# Altium footprint library Crystal.PcbLib: 185 footprints (part 11 of 12)
Each footprint in its own frame and in the unit in brackets; x right, y up, seen from the top. Pads: shape width x height; smd on the part's side, far side on the other; paste and mask are expansions set on the pad; w line width, h text height; cw(c..) or ccw(c..) is an arc to the next point about the centre after c.
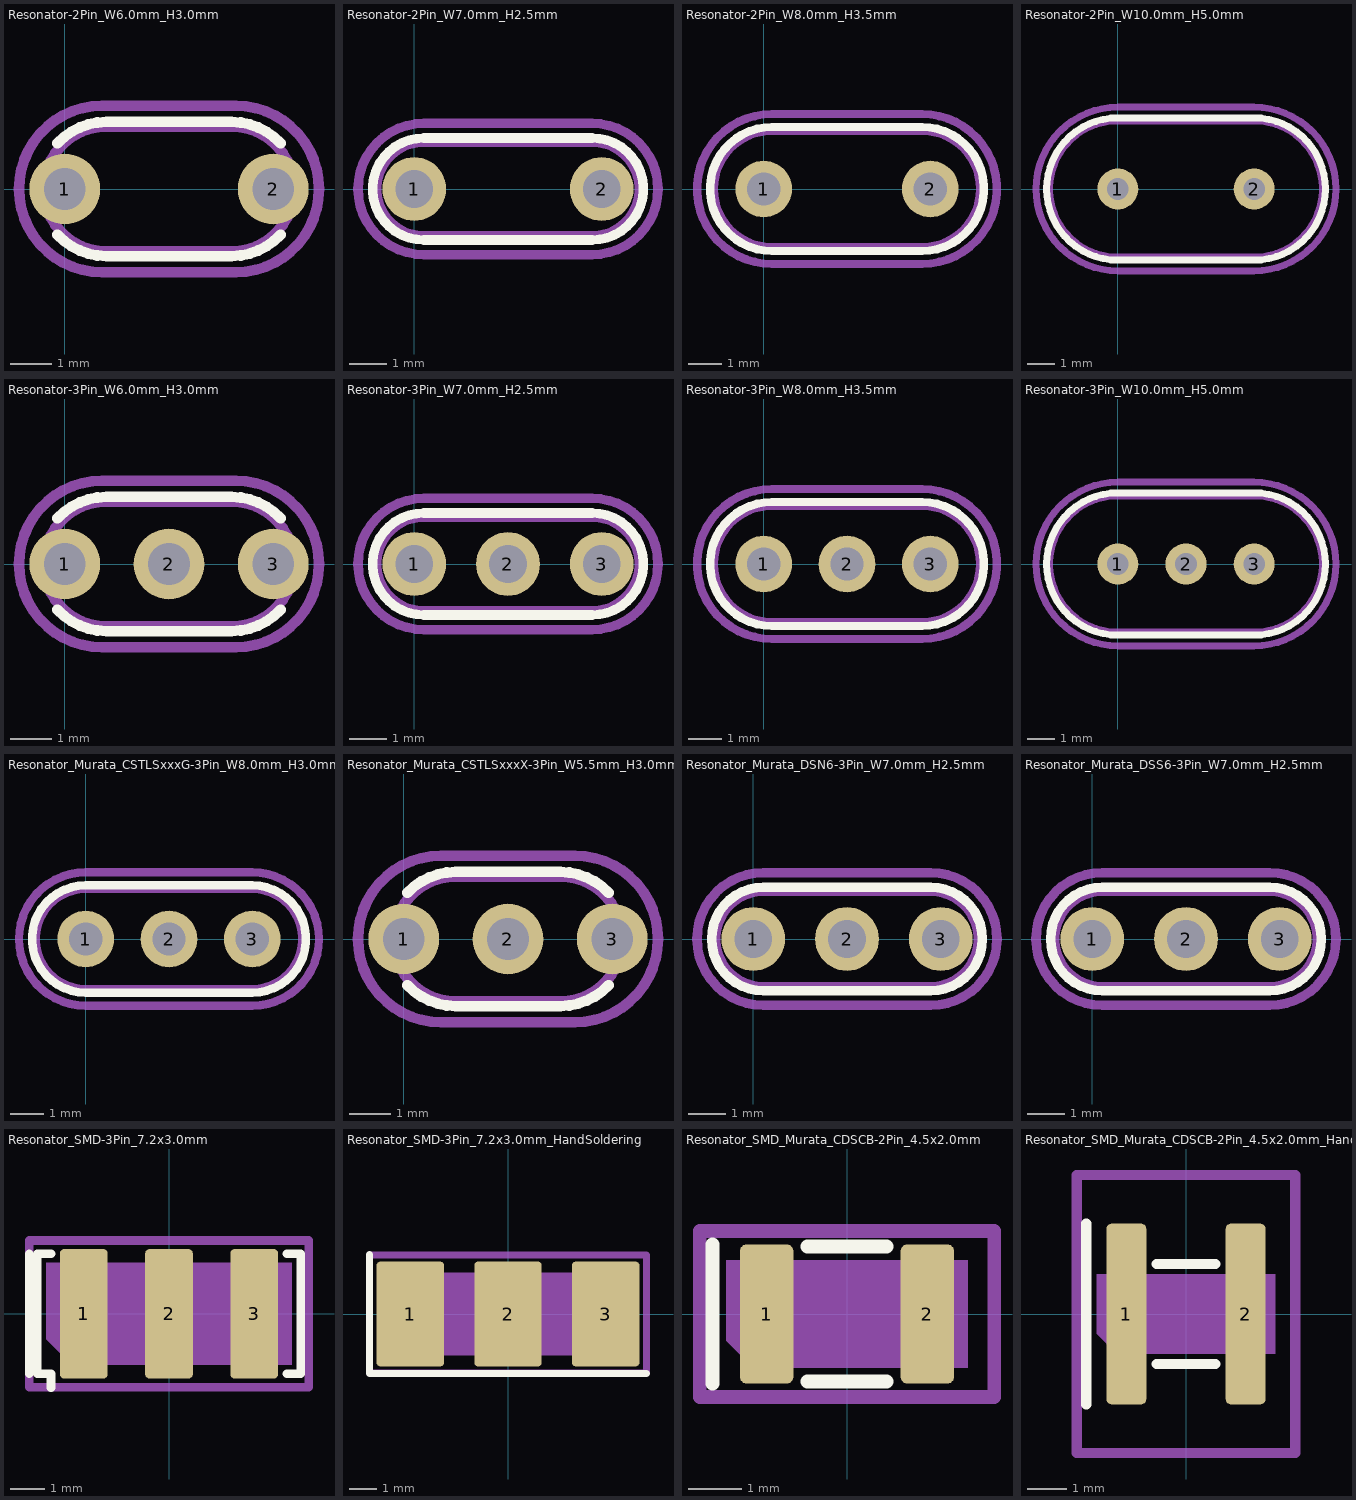
[diagram p10: the footprints below, top view; thin cyan lines are the x and y axes]

## Resonator-2Pin_W6.0mm_H3.0mm [mm]
pads (2):
  round 1.7 hole 1: 1(0,0) 2(5,0)
F.SilkS:
  lines w0.254: -0.18,-1.095 ccw(c0.998,-0.005) 1,-1.61 4,-1.61 ccw(c4.002,-0.005) 5.18,-1.095 ; -0.18,1.095 cw(c0.998,0.005) 1,1.61 4,1.61 cw(c4.002,0.005) 5.18,1.095
Top Assembly:
  lines w0.254: 1,-1.5 cw(c1,0) 1,1.5 4,1.5 cw(c4,0) 4,-1.5 1,-1.5
  text "'.Designator'" at -1.547,-0.84 h1
Top Courtyard:
  lines w0.254: 0.9,-2 cw(c0.9,0) 0.9,2 4.1,2 cw(c4.1,0) 4.1,-2 0.9,-2
Top Designator:
  text ".Designator" at -5.268,-0.508 h1.52

## Resonator-2Pin_W7.0mm_H2.5mm [mm]
pads (2):
  round 1.7 hole 1: 1(0,0) 2(5,0)
F.SilkS:
  lines w0.254: 0.25,-1.36 cw(c0.25,0) 0.25,1.36 4.75,1.36 cw(c4.75,0) 4.75,-1.36 0.25,-1.36
Top Assembly:
  lines w0.254: 0.25,-1.25 cw(c0.25,0) 0.25,1.25 4.75,1.25 cw(c4.75,0) 4.75,-1.25 0.25,-1.25
  text "'.Designator'" at -1.547,-0.84 h1
Top Courtyard:
  lines w0.254: 0.25,-1.75 cw(c0.25,0) 0.25,1.75 4.75,1.75 cw(c4.75,0) 4.75,-1.75 0.25,-1.75
Top Designator:
  text ".Designator" at -5.152,-0.508 h1.52

## Resonator-2Pin_W8.0mm_H3.5mm [mm]
pads (2):
  round 1.7 hole 1: 1(0,0) 2(5,0)
F.SilkS:
  lines w0.254: 0.25,-1.86 cw(c0.25,0) 0.25,1.86 4.75,1.86 cw(c4.75,0) 4.75,-1.86 0.25,-1.86
Top Assembly:
  lines w0.254: 0.25,-1.75 cw(c0.25,0) 0.25,1.75 4.75,1.75 cw(c4.75,0) 4.75,-1.75 0.25,-1.75
  text "'.Designator'" at -1.547,-0.84 h1
Top Courtyard:
  lines w0.254: 0.25,-2.25 cw(c0.25,0) 0.25,2.25 4.75,2.25 cw(c4.75,0) 4.75,-2.25 0.25,-2.25
Top Designator:
  text ".Designator" at -5.118,-0.508 h1.52

## Resonator-2Pin_W10.0mm_H5.0mm [mm]
pads (2):
  round 1.5 hole 0.8: 1(0,0) 2(5,0)
F.SilkS:
  lines w0.254: 0,-2.61 cw(c0,0) 0,2.61 5,2.61 cw(c5,0) 5,-2.61 0,-2.61
Top Assembly:
  lines w0.254: 0,-2.5 cw(c0,0) 0,2.5 5,2.5 cw(c5,0) 5,-2.5 0,-2.5
  text "'.Designator'" at -1.547,-0.84 h1
Top Courtyard:
  lines w0.254: 0,-3 cw(c0,0) 0,3 5,3 cw(c5,0) 5,-3 0,-3
Top Designator:
  text ".Designator" at -5.118,-0.508 h1.52

## Resonator-3Pin_W6.0mm_H3.0mm [mm]
pads (3):
  round 1.7 hole 1: 1(0,0) 2(2.5,0) 3(5,0)
F.SilkS:
  lines w0.254: -0.18,-1.095 ccw(c0.998,-0.005) 1,-1.61 4,-1.61 ccw(c4.002,-0.005) 5.18,-1.095 ; -0.18,1.095 cw(c0.998,0.005) 1,1.61 4,1.61 cw(c4.002,0.005) 5.18,1.095
Top Assembly:
  lines w0.254: 1,-1.5 cw(c1,0) 1,1.5 4,1.5 cw(c4,0) 4,-1.5 1,-1.5
  text "'.Designator'" at -1.547,-0.84 h1
Top Courtyard:
  lines w0.254: 0.9,-2 cw(c0.9,0) 0.9,2 4.1,2 cw(c4.1,0) 4.1,-2 0.9,-2
Top Designator:
  text ".Designator" at -5.268,-0.508 h1.52

## Resonator-3Pin_W7.0mm_H2.5mm [mm]
pads (3):
  round 1.7 hole 1: 1(0,0) 2(2.5,0) 3(5,0)
F.SilkS:
  lines w0.254: 0.25,-1.36 cw(c0.25,0) 0.25,1.36 4.75,1.36 cw(c4.75,0) 4.75,-1.36 0.25,-1.36
Top Assembly:
  lines w0.254: 0.25,-1.25 cw(c0.25,0) 0.25,1.25 4.75,1.25 cw(c4.75,0) 4.75,-1.25 0.25,-1.25
  text "'.Designator'" at -1.547,-0.84 h1
Top Courtyard:
  lines w0.254: 0.25,-1.75 cw(c0.25,0) 0.25,1.75 4.75,1.75 cw(c4.75,0) 4.75,-1.75 0.25,-1.75
Top Designator:
  text ".Designator" at -5.152,-0.508 h1.52

## Resonator-3Pin_W8.0mm_H3.5mm [mm]
pads (3):
  round 1.7 hole 1: 1(0,0) 2(2.5,0) 3(5,0)
F.SilkS:
  lines w0.254: 0.25,-1.86 cw(c0.25,0) 0.25,1.86 4.75,1.86 cw(c4.75,0) 4.75,-1.86 0.25,-1.86
Top Assembly:
  lines w0.254: 0.25,-1.75 cw(c0.25,0) 0.25,1.75 4.75,1.75 cw(c4.75,0) 4.75,-1.75 0.25,-1.75
  text "'.Designator'" at -1.547,-0.84 h1
Top Courtyard:
  lines w0.254: 0.25,-2.25 cw(c0.25,0) 0.25,2.25 4.75,2.25 cw(c4.75,0) 4.75,-2.25 0.25,-2.25
Top Designator:
  text ".Designator" at -5.118,-0.508 h1.52

## Resonator-3Pin_W10.0mm_H5.0mm [mm]
pads (3):
  round 1.5 hole 0.8: 1(0,0) 2(2.5,0) 3(5,0)
F.SilkS:
  lines w0.254: 0,-2.61 cw(c0,0) 0,2.61 5,2.61 cw(c5,0) 5,-2.61 0,-2.61
Top Assembly:
  lines w0.254: 0,-2.5 cw(c0,0) 0,2.5 5,2.5 cw(c5,0) 5,-2.5 0,-2.5
  text "'.Designator'" at -1.547,-0.84 h1
Top Courtyard:
  lines w0.254: 0,-3 cw(c0,0) 0,3 5,3 cw(c5,0) 5,-3 0,-3
Top Designator:
  text ".Designator" at -5.118,-0.508 h1.52

## Resonator_Murata_CSTLSxxxG-3Pin_W8.0mm_H3.0mm [mm]
pads (3):
  round 1.7 hole 1: 1(0,0) 2(2.5,0) 3(5,0)
F.SilkS:
  lines w0.254: 0,-1.61 cw(c0,0) 0,1.61 5,1.61 cw(c5,0) 5,-1.61 0,-1.61
Top Assembly:
  lines w0.254: 0,-1.5 cw(c0,0) 0,1.5 5,1.5 cw(c5,0) 5,-1.5 0,-1.5
  text "'.Designator'" at -1.547,-0.84 h1
Top Courtyard:
  lines w0.254: 0,-2 cw(c0,0) 0,2 5,2 cw(c5,0) 5,-2 0,-2
Top Designator:
  text ".Designator" at -5.118,-0.508 h1.52

## Resonator_Murata_CSTLSxxxX-3Pin_W5.5mm_H3.0mm [mm]
pads (3):
  round 1.7 hole 1: 1(0,0) 2(2.5,0) 3(5,0)
F.SilkS:
  lines w0.254: 0.081,-1.107 ccw(c1.25,0) 1.25,-1.61 3.75,-1.61 ccw(c3.75,0) 4.919,-1.107 ; 0.081,1.107 cw(c1.25,0) 1.25,1.61 3.75,1.61 cw(c3.75,0) 4.919,1.107
Top Assembly:
  lines w0.254: 1.25,-1.5 cw(c1.25,0) 1.25,1.5 3.75,1.5 cw(c3.75,0) 3.75,-1.5 1.25,-1.5
  text "'.Designator'" at -1.547,-0.84 h1
Top Courtyard:
  lines w0.254: 0.9,-2 cw(c0.9,0) 0.9,2 4.1,2 cw(c4.1,0) 4.1,-2 0.9,-2
Top Designator:
  text ".Designator" at -5.268,-0.508 h1.52

## Resonator_Murata_DSN6-3Pin_W7.0mm_H2.5mm [mm]
pads (3):
  round 1.7 hole 1: 1(0,0) 2(2.5,0) 3(5,0)
F.SilkS:
  lines w0.254: 0.27,-1.38 cw(c0.27,0) 0.27,1.38 4.73,1.38 cw(c4.73,0) 4.73,-1.38 0.27,-1.38
Top Assembly:
  lines w0.254: 0.27,-1.27 cw(c0.27,0) 0.27,1.27 4.73,1.27 cw(c4.73,0) 4.73,-1.27 0.27,-1.27
  text "'.Designator'" at -1.547,-0.84 h1
Top Courtyard:
  lines w0.254: 0.27,-1.77 cw(c0.27,0) 0.27,1.77 4.73,1.77 cw(c4.73,0) 4.73,-1.77 0.27,-1.77
Top Designator:
  text ".Designator" at -5.152,-0.508 h1.52

## Resonator_Murata_DSS6-3Pin_W7.0mm_H2.5mm [mm]
pads (3):
  round 1.7 hole 1: 1(0,0) 2(2.5,0) 3(5,0)
F.SilkS:
  lines w0.254: 0.27,-1.38 cw(c0.27,0) 0.27,1.38 4.73,1.38 cw(c4.73,0) 4.73,-1.38 0.27,-1.38
Top Assembly:
  lines w0.254: 0.27,-1.27 cw(c0.27,0) 0.27,1.27 4.73,1.27 cw(c4.73,0) 4.73,-1.27 0.27,-1.27
  text "'.Designator'" at -1.547,-0.84 h1
Top Courtyard:
  lines w0.254: 0.27,-1.77 cw(c0.27,0) 0.27,1.77 4.73,1.77 cw(c4.73,0) 4.73,-1.77 0.27,-1.77
Top Designator:
  text ".Designator" at -5.152,-0.508 h1.52

## Resonator_SMD-3Pin_7.2x3.0mm [mm]
pads (3):
  rrect18% 1.4x3.8 smd: 1(-2.5,0) 2(0,0) 3(2.5,0)
F.SilkS:
  lines w0.254: -4.1,-1.76 -4.1,1.76 ; -3.46,-2.16 -3.46,-1.76 -3.86,-1.76 -3.86,1.76 -3.46,1.76 ; 3.46,-1.76 3.86,-1.76 3.86,1.76 3.46,1.76
Top Assembly:
  region: 3.6,-1.5 -2.85,-1.5 -3.6,-0.75 -3.6,1.5 3.6,1.5
  text "'.Designator'" at -4.047,-0.84 h1
Top Courtyard:
  lines w0.254: -4.1,-2.15 4.1,-2.15 4.1,2.15 -4.1,2.15 -4.1,-2.15
Top Designator:
  text ".Designator" at -7.618,-0.513 h1.52

## Resonator_SMD-3Pin_7.2x3.0mm_HandSoldering [mm]
pads (3):
  rrect10% 2.45x3.8 smd: 1(-3.55,0) 2(0,0) 3(3.55,0)
F.SilkS:
  lines w0.254: -5.035,2.16 -5.035,-2.16 5.035,-2.16
Top Assembly:
  region: 3.6,-1.5 -2.85,-1.5 -3.6,-0.75 -3.6,1.5 3.6,1.5
  text "'.Designator'" at -4.047,-0.84 h1
Top Courtyard:
  lines w0.254: -5.03,-2.15 5.03,-2.15 5.03,2.15 -5.03,2.15 -5.03,-2.15
Top Designator:
  text ".Designator" at -7.618,-0.508 h1.52

## Resonator_SMD_Murata_CDSCB-2Pin_4.5x2.0mm [mm]
pads (2):
  rrect25% 1x2.6 smd: 1(-1.5,0) 2(1.5,0)
F.SilkS:
  lines w0.254: -2.51,-1.3 -2.51,1.3 ; -0.74,-1.26 0.74,-1.26 ; -0.74,1.26 0.74,1.26
Top Assembly:
  region: 2.25,-1 -1.75,-1 -2.25,-0.5 -2.25,1 2.25,1
  text "'.Designator'" at -4.047,-0.84 h1
Top Courtyard:
  lines w0.254: -2.75,-1.55 2.75,-1.55 2.75,1.55 -2.75,1.55 -2.75,-1.55
Top Designator:
  text ".Designator" at -7.768,-0.508 h1.52

## Resonator_SMD_Murata_CDSCB-2Pin_4.5x2.0mm_HandSoldering [mm]
pads (2):
  rrect25% 1x4.55 smd: 1(-1.5,0) 2(1.5,0)
F.SilkS:
  lines w0.254: -2.51,-2.275 -2.51,2.275 ; -0.74,-1.26 0.74,-1.26 ; -0.74,1.26 0.74,1.26
Top Assembly:
  region: 2.25,-1 -1.75,-1 -2.25,-0.5 -2.25,1 2.25,1
  text "'.Designator'" at -4.047,-0.84 h1
Top Courtyard:
  lines w0.254: -2.75,-3.5 2.75,-3.5 2.75,3.5 -2.75,3.5 -2.75,-3.5
Top Designator:
  text ".Designator" at -7.768,-0.508 h1.52